# EAGLE library part LT1001CS8PBF (library Opamps)
Precision Operational Amplifier
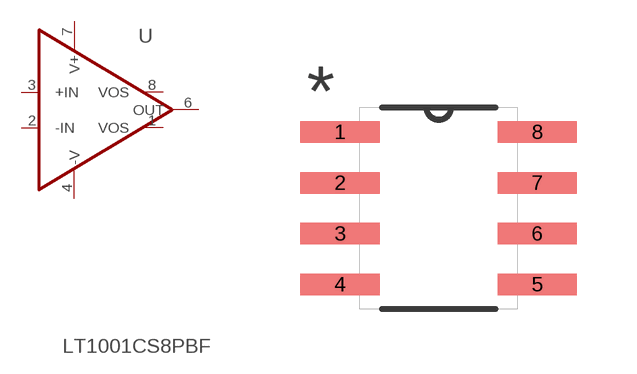
[diagram p1: symbol with the pads of SOIC127P600X175-8N; footprint SOIC127P600X175-8N]

Designator prefix U

## LT1001CS8PBF (MPN: LT1001CS8#PBF; OC_FARNELL: 1330559; OC_NEWARK: 57M0682; PACKAGE: SOIC-8; SUPPLIER: Linear Technology)  [SOIC127P600X175-8N]
1  VOS  pas
2  -IN  in
3  +IN  in
4  -V  pwr
5  NC  nc
6  OUT  out
7  V+  pwr
8  VOS  pas

## Footprint SOIC127P600X175-8N (pad centres in mm)
Erstellt aus Ultrlibrarian von "Tomar, Ankur" <atomar@element14.com> / "Mohammed, Tanvir" <MTanvir@element14.com> Download als EAGLE Script von: Download <http://www.farnell.com/cad/1539614.zip>
smd 1.981 x 0.533: 1 -2.464,1.905; 2 -2.464,0.635; 3 -2.464,-0.635; 4 -2.464,-1.905; 5 2.464,-1.905; 6 2.464,-0.635; 7 2.464,0.635; 8 2.464,1.905